# Altium schematic symbol library SCH - MCU - RENESAS - RENESAS R7FS3A17XXXXXXBJ 121BGA.SchLib: 1 symbol
Pins are listed as number, name and electrical type; pins without a type are passive.

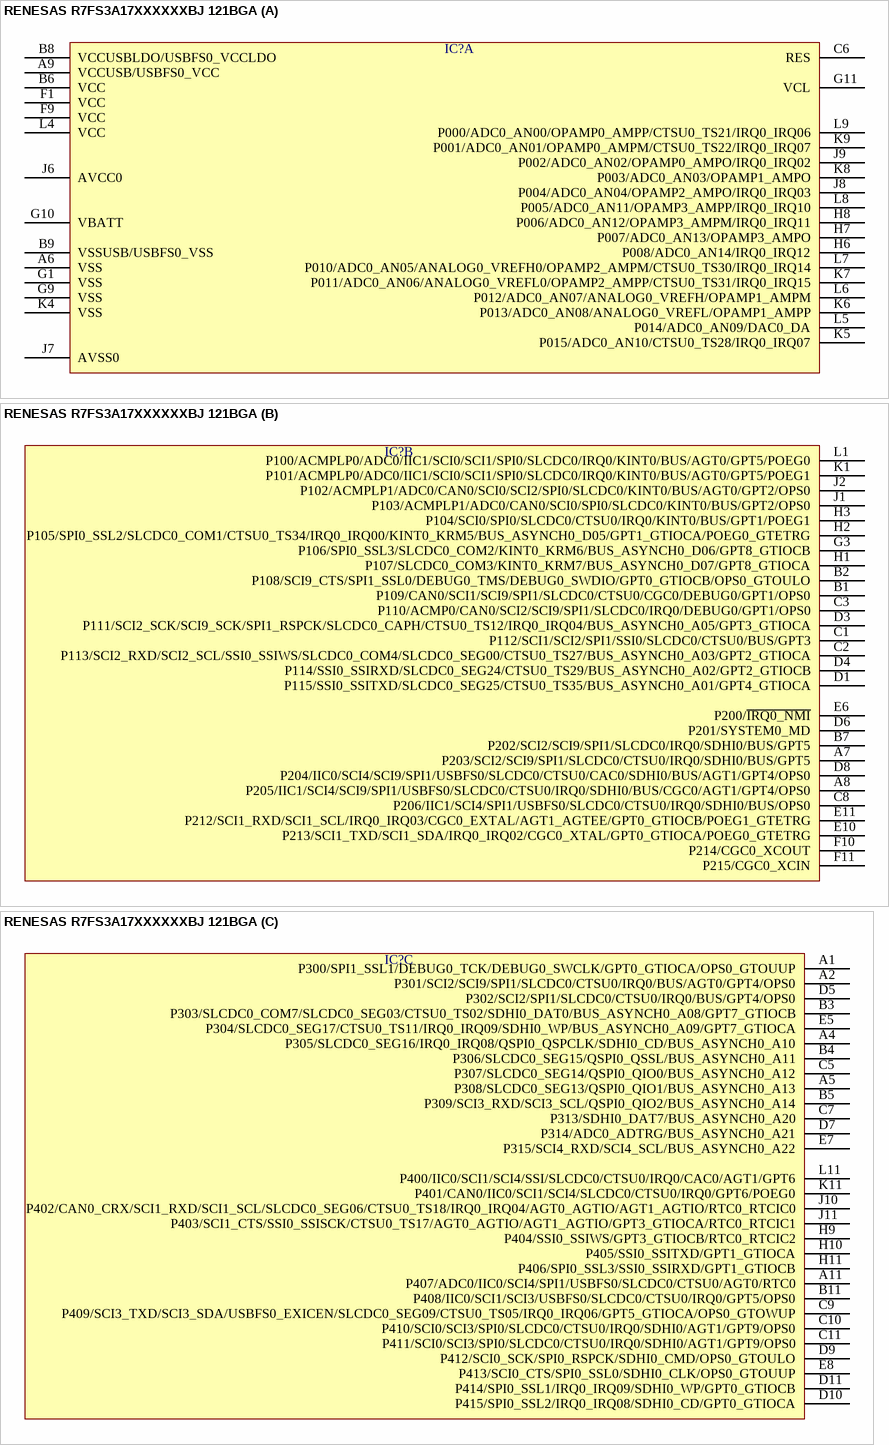
[diagram p0: symbol RENESAS R7FS3A17XXXXXXBJ 121BGA]

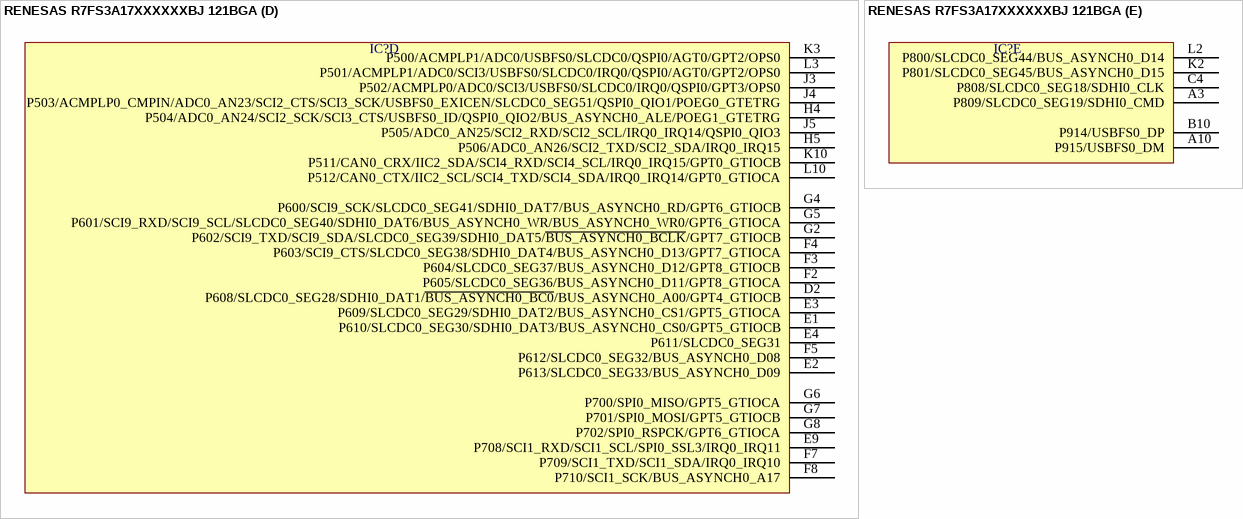
[diagram p1: symbol RENESAS R7FS3A17XXXXXXBJ 121BGA]

## RENESAS R7FS3A17XXXXXXBJ 121BGA
designator IC?  (value not drawn)
part A pins: A6 VSS, A9 VCCUSB/USBFS0_VCC, B6 VCC, B8 VCCUSBLDO/USBFS0_VCCLDO, B9 VSSUSB/USBFS0_VSS, C6 RES, F1 VCC, F9 VCC, G1 VSS, G9 VSS, G10 VBATT, G11 VCL, H6 P008/ADC0_AN14/IRQ0_IRQ12, H7 P007/ADC0_AN13/OPAMP3_AMPO, H8 P006/ADC0_AN12/OPAMP3_AMPM/IRQ0_IRQ11, J6 AVCC0, J7 AVSS0, J8 P004/ADC0_AN04/OPAMP2_AMPO/IRQ0_IRQ03, J9 P002/ADC0_AN02/OPAMP0_AMPO/IRQ0_IRQ02, K4 VSS, K5 P015/ADC0_AN10/CTSU0_TS28/IRQ0_IRQ07, K6 P013/ADC0_AN08/ANALOG0_VREFL/OPAMP1_AMPP, K7 P011/ADC0_AN06/ANALOG0_VREFL0/OPAMP2_AMPP/CTSU0_TS31/IRQ0_IRQ15, K8 P003/ADC0_AN03/OPAMP1_AMPO, K9 P001/ADC0_AN01/OPAMP0_AMPM/CTSU0_TS22/IRQ0_IRQ07, L4 VCC, L5 P014/ADC0_AN09/DAC0_DA, L6 P012/ADC0_AN07/ANALOG0_VREFH/OPAMP1_AMPM, L7 P010/ADC0_AN05/ANALOG0_VREFH0/OPAMP2_AMPM/CTSU0_TS30/IRQ0_IRQ14, L8 P005/ADC0_AN11/OPAMP3_AMPP/IRQ0_IRQ10, L9 P000/ADC0_AN00/OPAMP0_AMPP/CTSU0_TS21/IRQ0_IRQ06
part B pins: A7 P203/SCI2/SCI9/SPI1/SLCDC0/CTSU0/IRQ0/SDHI0/BUS/GPT5, A8 P205/IIC1/SCI4/SCI9/SPI1/USBFS0/SLCDC0/CTSU0/IRQ0/SDHI0/BUS/CGC0/AGT1/GPT4/OPS0, B1 P109/CAN0/SCI1/SCI9/SPI1/SLCDC0/CTSU0/CGC0/DEBUG0/GPT1/OPS0, B2 P108/SCI9_CTS/SPI1_SSL0/DEBUG0_TMS/DEBUG0_SWDIO/GPT0_GTIOCB/OPS0_GTOULO, B7 P202/SCI2/SCI9/SPI1/SLCDC0/IRQ0/SDHI0/BUS/GPT5, C1 P112/SCI1/SCI2/SPI1/SSI0/SLCDC0/CTSU0/BUS/GPT3, C2 P113/SCI2_RXD/SCI2_SCL/SSI0_SSIWS/SLCDC0_COM4/SLCDC0_SEG00/CTSU0_TS27/BUS_ASYNCH0_A03/GPT2_GTIOCA, C3 P110/ACMP0/CAN0/SCI2/SCI9/SPI1/SLCDC0/IRQ0/DEBUG0/GPT1/OPS0, C8 P206/IIC1/SCI4/SPI1/USBFS0/SLCDC0/CTSU0/IRQ0/SDHI0/BUS/OPS0, D1 P115/SSI0_SSITXD/SLCDC0_SEG25/CTSU0_TS35/BUS_ASYNCH0_A01/GPT4_GTIOCA, D3 P111/SCI2_SCK/SCI9_SCK/SPI1_RSPCK/SLCDC0_CAPH/CTSU0_TS12/IRQ0_IRQ04/BUS_ASYNCH0_A05/GPT3_GTIOCA, D4 P114/SSI0_SSIRXD/SLCDC0_SEG24/CTSU0_TS29/BUS_ASYNCH0_A02/GPT2_GTIOCB, D6 P201/SYSTEM0_MD, D8 P204/IIC0/SCI4/SCI9/SPI1/USBFS0/SLCDC0/CTSU0/CAC0/SDHI0/BUS/AGT1/GPT4/OPS0, E6 P200/~{IRQ0_NMI}, E10 P213/SCI1_TXD/SCI1_SDA/IRQ0_IRQ02/CGC0_XTAL/GPT0_GTIOCA/POEG0_GTETRG, E11 P212/SCI1_RXD/SCI1_SCL/IRQ0_IRQ03/CGC0_EXTAL/AGT1_AGTEE/GPT0_GTIOCB/POEG1_GTETRG, F10 P214/CGC0_XCOUT, F11 P215/CGC0_XCIN, G3 P106/SPI0_SSL3/SLCDC0_COM2/KINT0_KRM6/BUS_ASYNCH0_D06/GPT8_GTIOCB, H1 P107/SLCDC0_COM3/KINT0_KRM7/BUS_ASYNCH0_D07/GPT8_GTIOCA, H2 P105/SPI0_SSL2/SLCDC0_COM1/CTSU0_TS34/IRQ0_IRQ00/KINT0_KRM5/BUS_ASYNCH0_D05/GPT1_GTIOCA/POEG0_GTETRG, H3 P104/SCI0/SPI0/SLCDC0/CTSU0/IRQ0/KINT0/BUS/GPT1/POEG1, J1 P103/ACMPLP1/ADC0/CAN0/SCI0/SPI0/SLCDC0/KINT0/BUS/GPT2/OPS0, J2 P102/ACMPLP1/ADC0/CAN0/SCI0/SCI2/SPI0/SLCDC0/KINT0/BUS/AGT0/GPT2/OPS0, K1 P101/ACMPLP0/ADC0/IIC1/SCI0/SCI1/SPI0/SLCDC0/IRQ0/KINT0/BUS/AGT0/GPT5/POEG1, L1 P100/ACMPLP0/ADC0/IIC1/SCI0/SCI1/SPI0/SLCDC0/IRQ0/KINT0/BUS/AGT0/GPT5/POEG0
part C pins: A1 P300/SPI1_SSL1/DEBUG0_TCK/DEBUG0_SWCLK/GPT0_GTIOCA/OPS0_GTOUUP, A2 P301/SCI2/SCI9/SPI1/SLCDC0/CTSU0/IRQ0/BUS/AGT0/GPT4/OPS0, A4 P305/SLCDC0_SEG16/IRQ0_IRQ08/QSPI0_QSPCLK/SDHI0_CD/BUS_ASYNCH0_A10, A5 P308/SLCDC0_SEG13/QSPI0_QIO1/BUS_ASYNCH0_A13, A11 P407/ADC0/IIC0/SCI4/SPI1/USBFS0/SLCDC0/CTSU0/AGT0/RTC0, B3 P303/SLCDC0_COM7/SLCDC0_SEG03/CTSU0_TS02/SDHI0_DAT0/BUS_ASYNCH0_A08/GPT7_GTIOCB, B4 P306/SLCDC0_SEG15/QSPI0_QSSL/BUS_ASYNCH0_A11, B5 P309/SCI3_RXD/SCI3_SCL/QSPI0_QIO2/BUS_ASYNCH0_A14, B11 P408/IIC0/SCI1/SCI3/USBFS0/SLCDC0/CTSU0/IRQ0/GPT5/OPS0, C5 P307/SLCDC0_SEG14/QSPI0_QIO0/BUS_ASYNCH0_A12, C7 P313/SDHI0_DAT7/BUS_ASYNCH0_A20, C9 P409/SCI3_TXD/SCI3_SDA/USBFS0_EXICEN/SLCDC0_SEG09/CTSU0_TS05/IRQ0_IRQ06/GPT5_GTIOCA/OPS0_GTOWUP, C10 P410/SCI0/SCI3/SPI0/SLCDC0/CTSU0/IRQ0/SDHI0/AGT1/GPT9/OPS0, C11 P411/SCI0/SCI3/SPI0/SLCDC0/CTSU0/IRQ0/SDHI0/AGT1/GPT9/OPS0, D5 P302/SCI2/SPI1/SLCDC0/CTSU0/IRQ0/BUS/GPT4/OPS0, D7 P314/ADC0_ADTRG/BUS_ASYNCH0_A21, D9 P412/SCI0_SCK/SPI0_RSPCK/SDHI0_CMD/OPS0_GTOULO, D10 P415/SPI0_SSL2/IRQ0_IRQ08/SDHI0_CD/GPT0_GTIOCA, D11 P414/SPI0_SSL1/IRQ0_IRQ09/SDHI0_WP/GPT0_GTIOCB, E5 P304/SLCDC0_SEG17/CTSU0_TS11/IRQ0_IRQ09/SDHI0_WP/BUS_ASYNCH0_A09/GPT7_GTIOCA, E7 P315/SCI4_RXD/SCI4_SCL/BUS_ASYNCH0_A22, E8 P413/SCI0_CTS/SPI0_SSL0/SDHI0_CLK/OPS0_GTOUUP, H9 P404/SSI0_SSIWS/GPT3_GTIOCB/RTC0_RTCIC2, H10 P405/SSI0_SSITXD/GPT1_GTIOCA, H11 P406/SPI0_SSL3/SSI0_SSIRXD/GPT1_GTIOCB, J10 P402/CAN0_CRX/SCI1_RXD/SCI1_SCL/SLCDC0_SEG06/CTSU0_TS18/IRQ0_IRQ04/AGT0_AGTIO/AGT1_AGTIO/RTC0_RTCIC0, J11 P403/SCI1_CTS/SSI0_SSISCK/CTSU0_TS17/AGT0_AGTIO/AGT1_AGTIO/GPT3_GTIOCA/RTC0_RTCIC1, K11 P401/CAN0/IIC0/SCI1/SCI4/SLCDC0/CTSU0/IRQ0/GPT6/POEG0, L11 P400/IIC0/SCI1/SCI4/SSI/SLCDC0/CTSU0/IRQ0/CAC0/AGT1/GPT6
part D pins: D2 P608/SLCDC0_SEG28/SDHI0_DAT1/~{BUS_ASYNCH0_BC0}/BUS_ASYNCH0_A00/GPT4_GTIOCB, E1 P610/SLCDC0_SEG30/SDHI0_DAT3/BUS_ASYNCH0_CS0/GPT5_GTIOCB, E2 P613/SLCDC0_SEG33/BUS_ASYNCH0_D09, E3 P609/SLCDC0_SEG29/SDHI0_DAT2/BUS_ASYNCH0_CS1/GPT5_GTIOCA, E4 P611/SLCDC0_SEG31, E9 P708/SCI1_RXD/SCI1_SCL/SPI0_SSL3/IRQ0_IRQ11, F2 P605/SLCDC0_SEG36/BUS_ASYNCH0_D11/GPT8_GTIOCA, F3 P604/SLCDC0_SEG37/BUS_ASYNCH0_D12/GPT8_GTIOCB, F4 P603/SCI9_CTS/SLCDC0_SEG38/SDHI0_DAT4/BUS_ASYNCH0_D13/GPT7_GTIOCA, F5 P612/SLCDC0_SEG32/BUS_ASYNCH0_D08, F7 P709/SCI1_TXD/SCI1_SDA/IRQ0_IRQ10, F8 P710/SCI1_SCK/BUS_ASYNCH0_A17, G2 P602/SCI9_TXD/SCI9_SDA/SLCDC0_SEG39/SDHI0_DAT5/~{BUS_ASYNCH0_BCLK}/GPT7_GTIOCB, G4 P600/SCI9_SCK/SLCDC0_SEG41/SDHI0_DAT7/BUS_ASYNCH0_RD/GPT6_GTIOCB, G5 P601/SCI9_RXD/SCI9_SCL/SLCDC0_SEG40/SDHI0_DAT6/BUS_ASYNCH0_WR/BUS_ASYNCH0_WR0/GPT6_GTIOCA, G6 P700/SPI0_MISO/GPT5_GTIOCA, G7 P701/SPI0_MOSI/GPT5_GTIOCB, G8 P702/SPI0_RSPCK/GPT6_GTIOCA, H4 P504/ADC0_AN24/SCI2_SCK/SCI3_CTS/USBFS0_ID/QSPI0_QIO2/BUS_ASYNCH0_ALE/POEG1_GTETRG, H5 P506/ADC0_AN26/SCI2_TXD/SCI2_SDA/IRQ0_IRQ15, J3 P502/ACMPLP0/ADC0/SCI3/USBFS0/SLCDC0/IRQ0/QSPI0/GPT3/OPS0, J4 P503/ACMPLP0_CMPIN/ADC0_AN23/SCI2_CTS/SCI3_SCK/USBFS0_EXICEN/SLCDC0_SEG51/QSPI0_QIO1/POEG0_GTETRG, J5 P505/ADC0_AN25/SCI2_RXD/SCI2_SCL/IRQ0_IRQ14/QSPI0_QIO3, K3 P500/ACMPLP1/ADC0/USBFS0/SLCDC0/QSPI0/AGT0/GPT2/OPS0, K10 P511/CAN0_CRX/IIC2_SDA/SCI4_RXD/SCI4_SCL/IRQ0_IRQ15/GPT0_GTIOCB, L3 P501/ACMPLP1/ADC0/SCI3/USBFS0/SLCDC0/IRQ0/QSPI0/AGT0/GPT2/OPS0, L10 P512/CAN0_CTX/IIC2_SCL/SCI4_TXD/SCI4_SDA/IRQ0_IRQ14/GPT0_GTIOCA
part E pins: A3 P809/SLCDC0_SEG19/SDHI0_CMD, A10 P915/USBFS0_DM, B10 P914/USBFS0_DP, C4 P808/SLCDC0_SEG18/SDHI0_CLK, K2 P801/SLCDC0_SEG45/BUS_ASYNCH0_D15, L2 P800/SLCDC0_SEG44/BUS_ASYNCH0_D14